# Altium integrated library 1711738.IntLib: 1 symbol
Pins are listed as number, name and electrical type; pins without a type are passive.

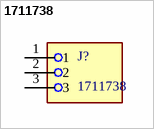
[diagram p0: symbol 1711738]

## 1711738
designator J?
PCB Terminal Screw 5.08mm 12AWG 400V 24A 3 Position COMBICON MKDS Series | Phoenix Contact 1711738
footprint 1711738 (PCB Terminal Screw 5.08mm 12AWG 400V 24A 3 Position COMBICON MKDS Series)
pins: 1, 2, 3